# EAGLE library part CY7C64713-56 (library NewSDR)
Cypress Semiconductor FX1 EZ USB Chip - 56 Pin QFN
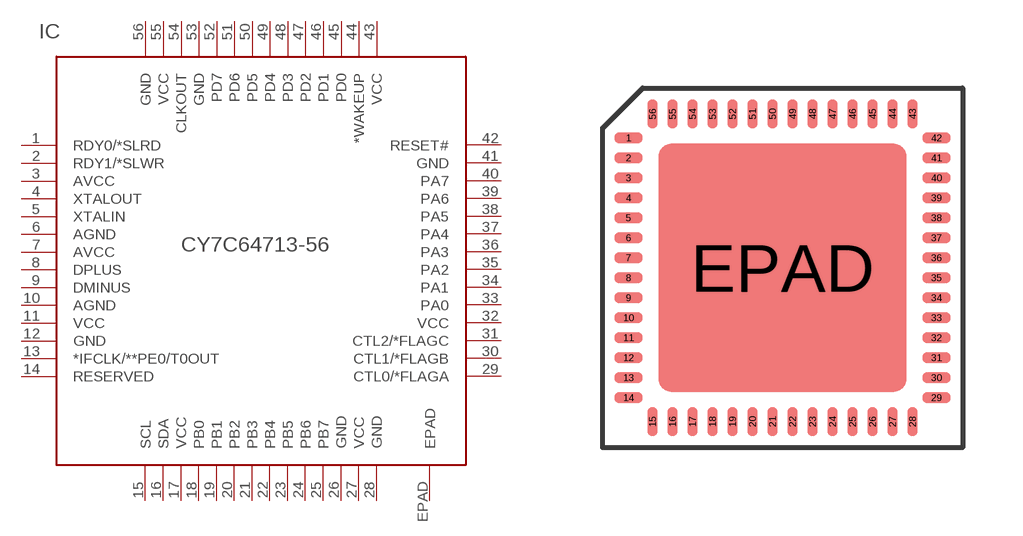
[diagram p13: symbol with the pads of QFN-56_P; footprint QFN-56_P]

Designator prefix IC

## CY7C64713-56  [QFN-56_P]
1  RDY0/*SLRD  in
2  RDY1/*SLWR  in
3  AVCC  pwr
4  XTALOUT  out
5  XTALIN  in
6  AGND  pwr
7  AVCC  pwr
8  DPLUS
9  DMINUS
10  AGND
11  VCC  pwr
12  GND  pwr
13  *IFCLK/**PE0/T0OUT
14  RESERVED  in
15  SCL  out
16  SDA  out
17  VCC  pwr
18  PB0
19  PB1
20  PB2
21  PB3
22  PB4
23  PB5
24  PB6
25  PB7
26  GND  pwr
27  VCC  pwr
28  GND  pwr
29  CTL0/*FLAGA
30  CTL1/*FLAGB
31  CTL2/*FLAGC
32  VCC  pwr
33  PA0
34  PA1
35  PA2
36  PA3
37  PA4
38  PA5
39  PA6
40  PA7
41  GND  pwr
42  RESET#
43  VCC  pwr
44  *WAKEUP  in
45  PD0
46  PD1
47  PD2
48  PD3
49  PD4
50  PD5
51  PD6
52  PD7
53  GND  pwr
54  CLKOUT  out
55  VCC  pwr
56  GND  pwr
EPAD  EPAD  pwr

## Footprint QFN-56_P (pad centres in mm)
56-Pin QFN with E-Pad
smd 0.7 x 0.25: 1 -3.85,3.25; 2 -3.85,2.75; 3 -3.85,2.25; 4 -3.85,1.75; 5 -3.85,1.25; 6 -3.85,0.75; 7 -3.85,0.25; 8 -3.85,-0.25; 9 -3.85,-0.75; 10 -3.85,-1.25; 11 -3.85,-1.75; 12 -3.85,-2.25; 13 -3.85,-2.75; 14 -3.85,-3.25; 29 3.85,-3.25; 30 3.85,-2.75; 31 3.85,-2.25; 32 3.85,-1.75; 33 3.85,-1.25; 34 3.85,-0.75; 35 3.85,-0.25; 36 3.85,0.25; 37 3.85,0.75; 38 3.85,1.25; 39 3.85,1.75; 40 3.85,2.25; 41 3.85,2.75; 42 3.85,3.25
smd 0.25 x 0.7: 15 -3.25,-3.85; 16 -2.75,-3.85; 17 -2.25,-3.85; 18 -1.75,-3.85; 19 -1.25,-3.85; 20 -0.75,-3.85; 21 -0.25,-3.85; 22 0.25,-3.85; 23 0.75,-3.85; 24 1.25,-3.85; 25 1.75,-3.85; 26 2.25,-3.85; 27 2.75,-3.85; 28 3.25,-3.85; 43 3.25,3.85; 44 2.75,3.85; 45 2.25,3.85; 46 1.75,3.85; 47 1.25,3.85; 48 0.75,3.85; 49 0.25,3.85; 50 -0.25,3.85; 51 -0.75,3.85; 52 -1.25,3.85; 53 -1.75,3.85; 54 -2.25,3.85; 55 -2.75,3.85; 56 -3.25,3.85
smd 6.2 x 6.2: EPAD 0,0